# EAGLE library part IMU_MINESWEEPER (library MIA_LIBRARY-2-2)
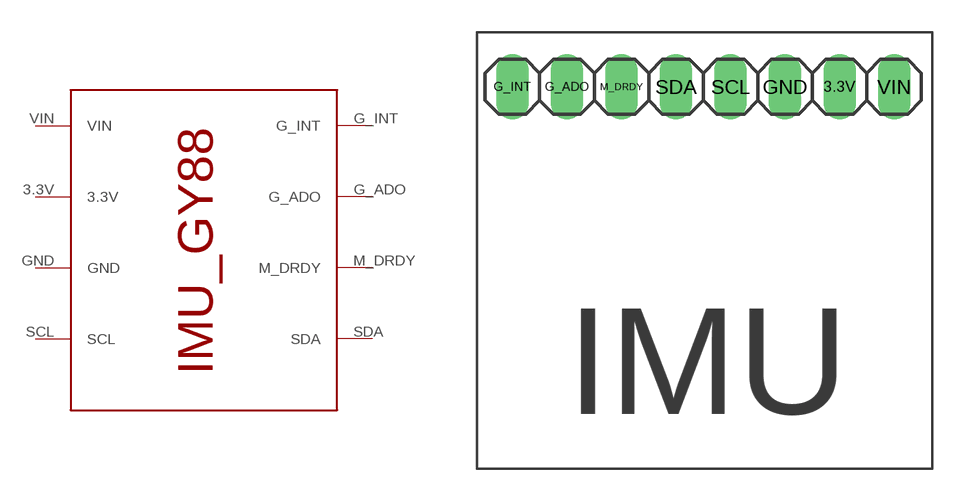
[diagram p50: symbol with the pads of IMU_GY88; footprint IMU_GY88]

Designator prefix -

## IMU_MINESWEEPER  [IMU_GY88]
3.3V  3.3V
G_ADO  G_ADO
G_INT  G_INT
GND  GND
M_DRDY  M_DRDY
SCL  SCL
SDA  SDA
VIN  VIN

## Footprint IMU_GY88 (pad centres in mm)
PIN HEADER
drill 1.016 long: 3.3V 6.35,0; G_ADO -6.35,0; G_INT -8.89,0; GND 3.81,0; M_DRDY -3.81,0; SCL 1.27,0; SDA -1.27,0; VIN 8.89,0